# EAGLE library part ADCDAC_INOUT (library seds)
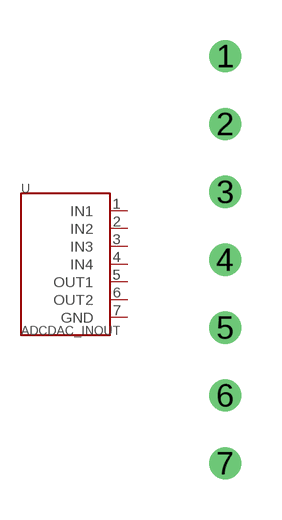
[diagram p3: symbol with the pads of 7PINHEADER; footprint 7PINHEADER]

Designator prefix -

## ADCDAC_INOUT  [7PINHEADER]
1  IN1
2  IN2
3  IN3
4  IN4
5  OUT1
6  OUT2
7  GND

## Footprint 7PINHEADER (pad centres in mm)
drill 0.7: 1 0,5.08; 2 0,2.54; 3 0,0; 4 0,-2.54; 5 0,-5.08; 6 0,-7.62; 7 0,-10.16